# Altium schematic symbol library memory_eeprom_SPI.SchLib: 19 symbols
Pins are listed as number, name and electrical type; pins without a type are passive.

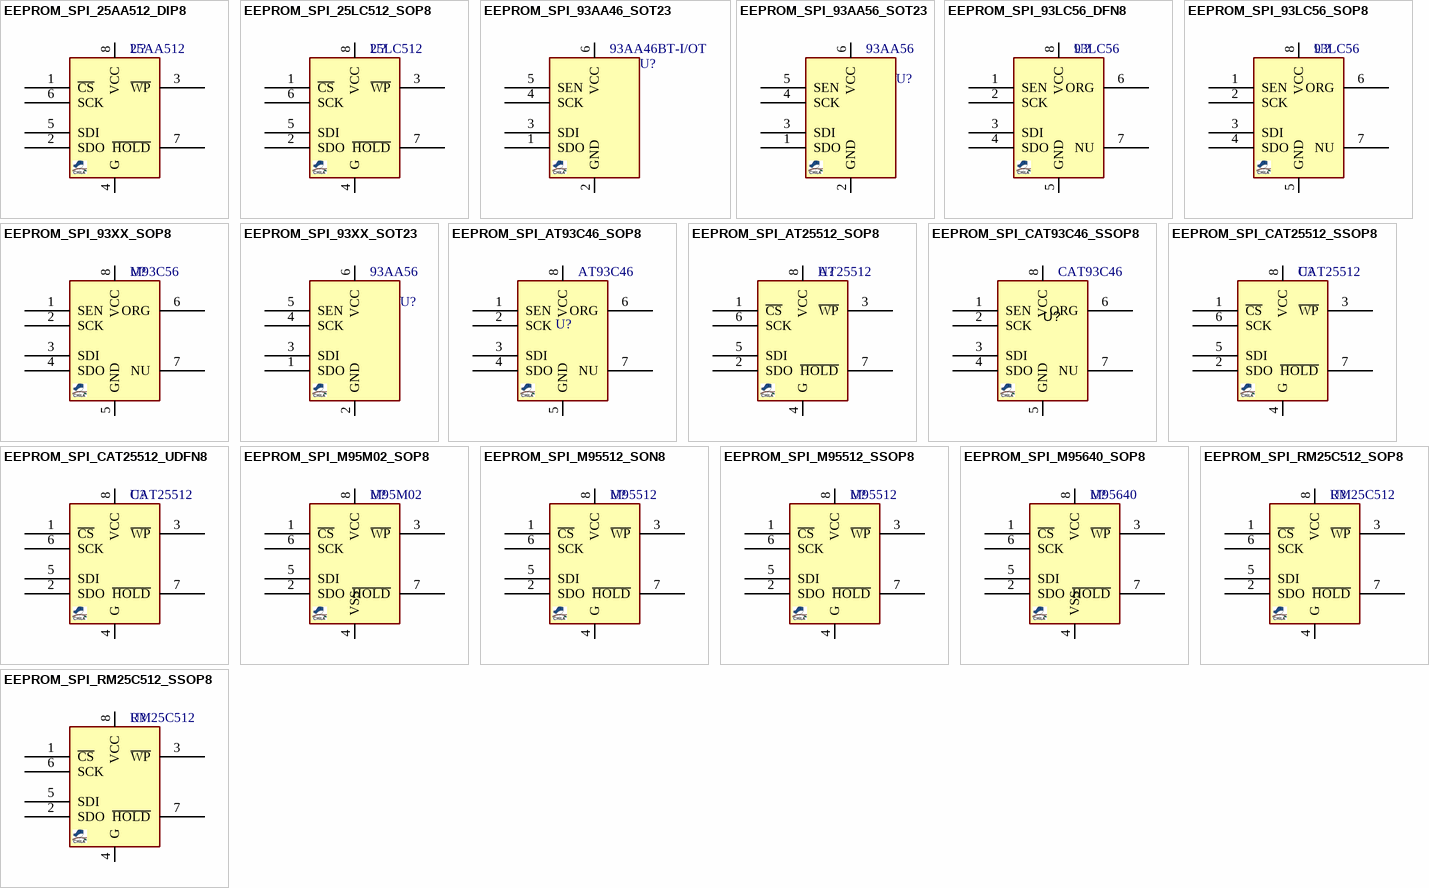
[diagram p0: symbols EEPROM_SPI_25AA512_DIP8 to EEPROM_SPI_RM25C512_SSOP8]

## EEPROM_SPI_25AA512_DIP8
designator U?, comment 25AA512
EEPROM, SPI, 512kbit (64K x8), DIP-8; MANF: Microchip; MANF_P#: 25AA512-I/P; PARAM2: 1.8~5.5V, 200Year, 20MHz; PARAM: 512kbit (64K x8), -40~125oC; PRICE: 2$; VALUE: 25AA512
footprint DIP_8 (DIP, pitch 2.54mm, 300mil Width)
pins: 1 ~{CS}, 2 SDO, 3 ~{WP}, 4 G, 5 SDI, 6 SCK, 7 ~{HOLD}, 8 VCC

## EEPROM_SPI_25LC512_SOP8
designator U?, comment 25LC512
EEPROM, SPI, 512kbit (64K x8), SOP-8; MANF: Microchip; MANF_P#: 25LC512-E/SN; PARAM2: 2.5~5.5V, 200Year, 20MHz; PARAM: 512kbit (64K x8), -40~125oC; PRICE: 2$; VALUE: 25LC512
footprint SO_8
pins: 1 ~{CS}, 2 SDO, 3 ~{WP}, 4 G, 5 SDI, 6 SCK, 7 ~{HOLD}, 8 VCC

## EEPROM_SPI_93AA46_SOT23
designator U?, comment 93AA46BT-I/OT
EEPROM, SPI, 1KBIT, SOT-23-6; MANF: Microchip; PARAM2: 1.8~5.5VCC; MANF_P#: 93AA46BT-I/OT; VALUE: 93AA46BT-I/OT
footprint SOT23_6 (SOT-23-6, MICRO6, SOT-26, SOT457, SuperSOT6, TSOP-6, HMC313, MO-178AB, MO-193AA, TSOT)
pins: 1 SDO, 2 GND, 3 SDI, 4 SCK, 5 SEN, 6 VCC

## EEPROM_SPI_93AA56_SOT23
designator U?, comment 93AA56
EEPROM, SPI, SOT-23-6; MANF_P#: 93AA56BT-I/OT, 93LC56BT-I/OT; MANF: Microchip; PARAM2: 1.8~5.5V; PARAM: 2Kb (128 x 16), 2MHz; PRICE: $0.27; VALUE: 93AA56
footprint SOT23_6 (SOT-23-6, MICRO6, SOT-26, SOT457, SuperSOT6, TSOP-6, HMC313, MO-178AB, MO-193AA, TSOT)
pins: 1 SDO, 2 GND, 3 SDI, 4 SCK, 5 SEN, 6 VCC

## EEPROM_SPI_93LC56_DFN8
designator U?, comment 93LC56
EEPROM, SPI, DFN-8; MANF: Microchip; MANF_P#: 93LC56CT-I/MC; PARAM2: 2.5~5.5V; PARAM: 2 kbit (256 x 8, 128 x 16), 2MHz; PRICE: $0.4; VALUE: 93LC56
footprint SON50_8T_2030 (TDFN, UFDFPN8, Pitch: 0.5mm 2x3x0.8mm with Thermal pad)
pins: 1 SEN, 2 SCK, 3 SDI, 4 SDO, 5 GND, 6 ORG, 7 NU, 8 VCC

## EEPROM_SPI_93LC56_SOP8
designator U?, comment 93LC56
EEPROM, SPI, SOP-8; MANF_P#: M93C56, 93LC56, 93C56; PARAM2: 1.8~5.5V; PARAM: 2 kbit (256 x 8, 128 x 16); VALUE: 93LC56
footprint SO_8
pins: 1 SEN, 2 SCK, 3 SDI, 4 SDO, 5 GND, 6 ORG, 7 NU, 8 VCC

## EEPROM_SPI_93XX_SOP8
designator U?, comment M93C56
EEPROM, SPI, SOP-8; MANF_P#: M93C56, 93C46, 93LC56, 93C56; PARAM2: 1.8~5.5V; PARAM: 2 kbit (256 x 8, 128 x 16); VALUE: M93C56
footprint SO_8
pins: 1 SEN, 2 SCK, 3 SDI, 4 SDO, 5 GND, 6 ORG, 7 NU, 8 VCC

## EEPROM_SPI_93XX_SOT23
designator U?, comment 93AA56
EEPROM, SPI, SOT-23-6; MANF_P#: 93AA56BT-I/OT, 93LC56BT-I/OT; MANF: Microchip; PARAM2: 1.8~5.5V; PARAM: 2Kb (128 x 16), 2MHz; PRICE: $0.27; VALUE: 93AA56
footprint SOT23_6 (SOT-23-6, MICRO6, SOT-26, SOT457, SuperSOT6, TSOP-6, HMC313, MO-178AB, MO-193AA, TSOT)
pins: 1 SDO, 2 GND, 3 SDI, 4 SCK, 5 SEN, 6 VCC

## EEPROM_SPI_AT93C46_SOP8
designator U?, comment AT93C46
EEPROM, SPI, 1KBIT, SOP-8; VALUE: AT93C46
footprint SO_8
pins: 1 SEN, 2 SCK, 3 SDI, 4 SDO, 5 GND, 6 ORG, 7 NU, 8 VCC

## EEPROM_SPI_AT25512_SOP8
designator U?, comment AT25512
EEPROM, SPI, 512kbit (64K x8), SOP-8; MANF: Microchip; MANF_P#: AT25512N-SH-T; PARAM2: 1.8~5.5V; PARAM: 512kbit (64K x8), -40~85oC; PRICE: 1.84$; VALUE: AT25512
footprint SO_8
pins: 1 ~{CS}, 2 SDO, 3 ~{WP}, 4 G, 5 SDI, 6 SCK, 7 ~{HOLD}, 8 VCC

## EEPROM_SPI_CAT93C46_SSOP8
designator U?, comment CAT93C46
EEPROM, SPI, 1KBIT, 2MHZ, 8-TSSOP; PARAM2: 1.8~5.5V, Microwire, 3-Wire Serial; MANF: ON Semiconductor; MANF_P#: CAT93C46YI-G; PARAM: 1K (128 x 8 or 64 x 16), 2MHz; VALUE: CAT93C46
footprint SOG65_8 (PW TSSOP (TI), MO-153 (JEDEC), 8Lead, pitch: 0.65mm, 3x4.4x1.2mm)
pins: 1 SEN, 2 SCK, 3 SDI, 4 SDO, 5 GND, 6 ORG, 7 NU, 8 VCC

## EEPROM_SPI_CAT25512_SSOP8
designator U?, comment CAT25512
EEPROM, SPI, 512kbit (64K x8), SOP-8; MANF: ON; MANF_P#: CAT25512YI-GT3; PARAM2: 1.8~5.5V; PARAM: 512kbit (64K x8), -40~85oC; PRICE: 1.84$; VALUE: CAT25512
footprint SOG65_8 (PW TSSOP (TI), MO-153 (JEDEC), 8Lead, pitch: 0.65mm, 3x4.4x1.2mm)
pins: 1 ~{CS}, 2 SDO, 3 ~{WP}, 4 G, 5 SDI, 6 SCK, 7 ~{HOLD}, 8 VCC

## EEPROM_SPI_CAT25512_UDFN8
designator U?, comment CAT25512
EEPROM, SPI, 512kbit (64K x8), UDFN-8; MANF: ON; MANF_P#: CAT25512HU5I-GT3; PARAM2: 1.8~5.5V; PARAM: 512kbit (64K x8), -40~85oC; PRICE: 2.4$; VALUE: CAT25512
footprint SON50_8T_2X3 (TDFN, UFDFPN8, Pitch: 0.5mm 2x3x0.8mm with Thermal pad)
pins: 1 ~{CS}, 2 SDO, 3 ~{WP}, 4 G, 5 SDI, 6 SCK, 7 ~{HOLD}, 8 VCC

## EEPROM_SPI_M95M02_SOP8
designator U?, comment M95M02
EEPROM, SPI, 2Mbit (256 x8), SOP-8; MANF: ST; MANF_P#: M95M02-DWMN3TP/K; PARAM2: 2.5~5.5V, 100Year, 10MHz; PARAM: 2Mbit (256 x8), -40~125oC; PRICE: 3.3$; VALUE: M95M02
footprint SO_8
pins: 1 ~{CS}, 2 SDO, 3 ~{WP}, 4 VSS, 5 SDI, 6 SCK, 7 ~{HOLD}, 8 VCC

## EEPROM_SPI_M95512_SON8
designator U?, comment M95512
EEPROM, SPI, 512kbit (64K x8), SON-8; MANF: ST; MANF_P#: M95512-DFMC6TG; PARAM2: 1.7~5.5V, 200Year, 16MHz; PARAM: 512kbit (64K x8), -40~85oC; PRICE: 1$; VALUE: M95512
footprint SON50_8T_2X3 (TDFN, UFDFPN8, Pitch: 0.5mm 2x3x0.8mm with Thermal pad)
pins: 1 ~{CS}, 2 SDO, 3 ~{WP}, 4 G, 5 SDI, 6 SCK, 7 ~{HOLD}, 8 VCC

## EEPROM_SPI_M95512_SSOP8
designator U?, comment M95512
EEPROM, SPI, 512kbit (64K x8), SSOP-8; MANF: ST; MANF_P#: M95512-DRDW8TP/K; PARAM2: 1.7~5.5V, up to 16MHz; PARAM: 512kbit (64K x8), -40~105oC; PRICE: 1$; VALUE: M95512
footprint SOG65_8 (PW TSSOP (TI), MO-153 (JEDEC), 8Lead, pitch: 0.65mm, 3x4.4x1.2mm)
pins: 1 ~{CS}, 2 SDO, 3 ~{WP}, 4 G, 5 SDI, 6 SCK, 7 ~{HOLD}, 8 VCC

## EEPROM_SPI_M95640_SOP8
designator U?, comment M95640
EEPROM, SPI, 64kbit, SOP-8; MANF: ST; MANF_P#: M95640-DRMN; PARAM2: 1.7~5.5V; PARAM: 64kbit (8KB); VALUE: M95640
footprint SO_8
pins: 1 ~{CS}, 2 SDO, 3 ~{WP}, 4 VSS, 5 SDI, 6 SCK, 7 ~{HOLD}, 8 VCC

## EEPROM_SPI_RM25C512_SOP8
designator U?, comment RM25C512
EEPROM, SPI, 512kbit (64K x8), SOP-8; MANF: Adesto; MANF_P#: RM25C512C-LSNI-B; PARAM2: 1.65~3.6V, 40Year; PARAM: 512kbit (64K x8), -40~85oC; PRICE: 0.6$; VALUE: RM25C512
footprint SO_8
pins: 1 ~{CS}, 2 SDO, 3 ~{WP}, 4 G, 5 SDI, 6 SCK, 7 ~{HOLD}, 8 VCC

## EEPROM_SPI_RM25C512_SSOP8
designator U?, comment RM25C512
EEPROM, SPI, 512kbit (64K x8), SSOP-8; MANF: Adesto; MANF_P#: RM25C512C-LTAI-B; PARAM2: 1.65~3.6V, 40Year; PARAM: 512kbit (64K x8), -40~85oC; PRICE: 0.6$; VALUE: RM25C512
footprint SOG65_8 (PW TSSOP (TI), MO-153 (JEDEC), 8Lead, pitch: 0.65mm, 3x4.4x1.2mm)
pins: 1 ~{CS}, 2 SDO, 3 ~{WP}, 4 G, 5 SDI, 6 SCK, 7 ~{HOLD}, 8 VCC